# Altium footprint library Control_Board.PcbLib: 2 footprints
Each footprint in its own frame and in the unit in brackets; x right, y up, seen from the top. Pads: shape width x height; smd on the part's side, far side on the other; paste and mask are expansions set on the pad; w line width, h text height; cw(c..) or ccw(c..) is an arc to the next point about the centre after c.
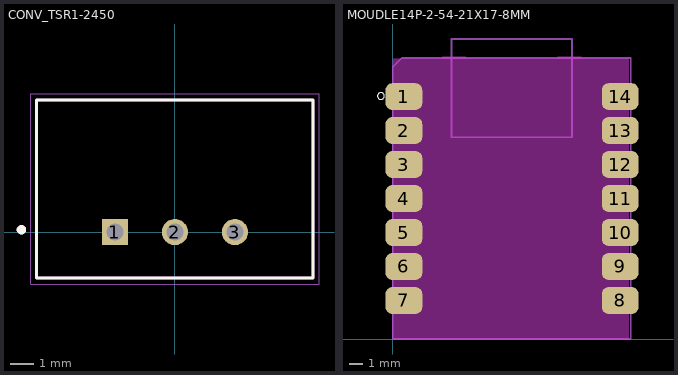
[diagram p0: the footprints below, top view; thin cyan lines are the x and y axes]

## CONV_TSR1-2450 [mm]
pads (3):
  rect 1.11x1.11 hole 0.71: 1(-2.54,0)
  round 1.11 hole 0.71: 2(0,0) 3(2.54,0)
Top Overlay:
  circle w0.2: c-6.5,0.1 r0.1
  lines w0.127: -5.85,-1.95 -5.85,5.6 5.85,5.6 5.85,-1.95 -5.85,-1.95
Mechanical 13:
  circle w0.2: c-6.5,0.1 r0.1
  lines w0.127: -5.85,-1.95 -5.85,5.6 5.85,5.6 5.85,-1.95 -5.85,-1.95
Mechanical 15:
  lines w0.05: -6.1,-2.2 6.1,-2.2 6.1,5.85 -6.1,5.85 -6.1,-2.2

## MOUDLE14P-2-54-21X17-8MM [mm]
pads (14):
  rrect50% 2.75x2 smd: 1(0.835,18.12) 2(0.835,15.58) 3(0.835,13.04) 4(0.835,10.5) 5(0.835,7.96) 6(0.835,5.42) 7(0.835,2.88) 8(17,2.88) 9(17,5.42) 10(17,7.96) 11(17,10.5) 12(17,13.04) 13(17,15.58) 14(17,18.12)
Top Layer keep-out:
  region: 6.35,17.78 6.35,20.32 11.43,20.32 11.43,17.78
  region: 6.35,0.635 6.35,3.175 12.065,3.175 12.065,0.635
  region: 3.683,18.415 3.683,21.082 5.461,21.082 5.461,18.415
  region: 3.683,14.351 3.683,17.018 5.461,17.018 5.461,14.351
  region: 12.319,14.351 12.319,17.018 14.097,17.018 14.097,14.351
  region: 12.319,18.415 12.319,21.082 14.097,21.082 14.097,18.415
  region: 0,0 0,20.955 17.653,20.955 17.653,0
Top Overlay:
  circle w0: c-0.889,18.161 r0.254
Mechanical 7:
  lines w0.127: 4.396,22.425 4.396,15.072 13.395,15.072 13.395,22.424 4.4,22.424 ; 0,0 17.8,0 17.8,21 0.672,21 0,20.328 0,0